# Altium footprint library converter.PcbLib: 44 footprints (part 1 of 3)
Each footprint in its own frame and in the unit in brackets; x right, y up, seen from the top. Pads: shape width x height; smd on the part's side, far side on the other; paste and mask are expansions set on the pad; w line width, h text height; cw(c..) or ccw(c..) is an arc to the next point about the centre after c.
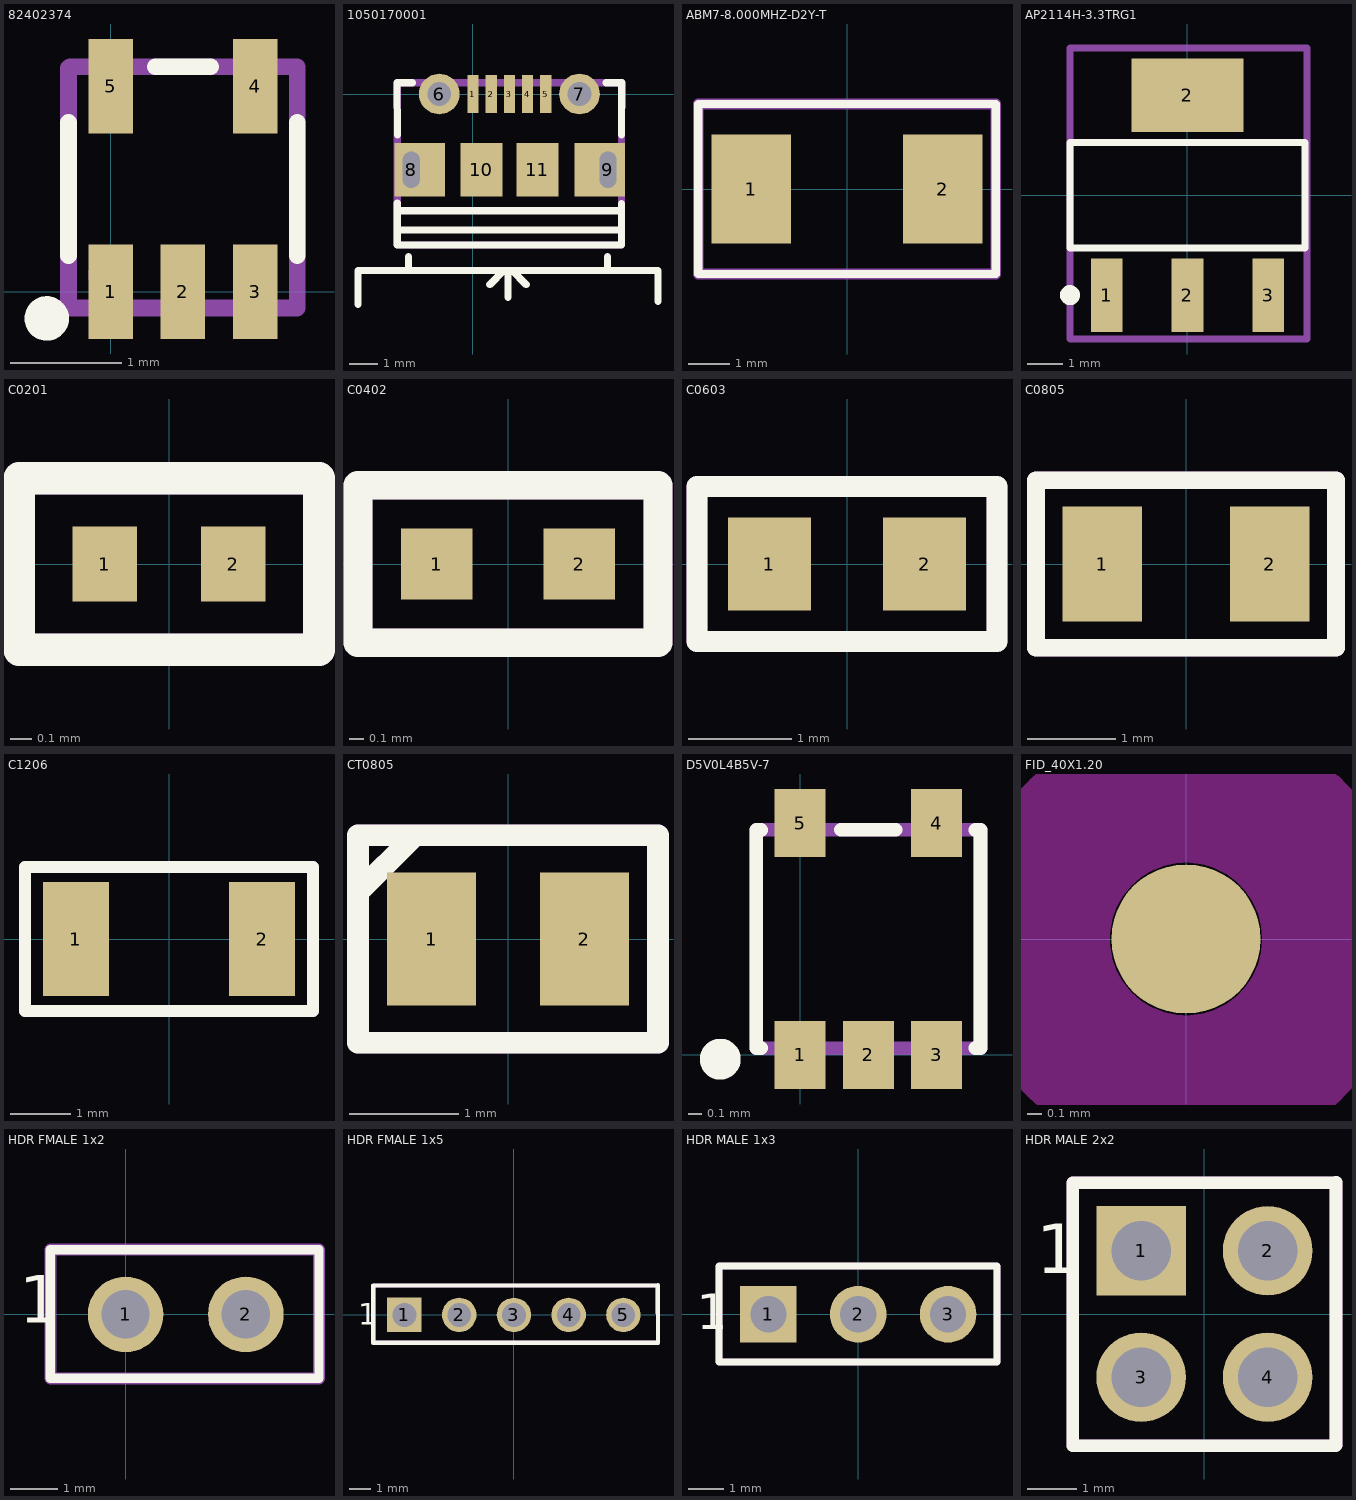
[diagram p0: the footprints below, top view; thin cyan lines are the x and y axes]

## 82402374 [mm]
pads (5):
  rect 0.4x0.85 smd mask+0.06: 1(0,0) 2(0.65,0) 3(1.3,0) 4(1.3,1.85) 5(0,1.85)
Top Overlay:
  circle w0.2: c-0.576,-0.24 r0.1
  lines w0.15: -0.38,0.325 -0.38,1.525 ; 0.4,2.025 0.9,2.025 ; 1.68,0.325 1.68,1.525
Mechanical 29:
  circle w0.2: c-0.001,0.154 r0.1
  lines w0.15: 1.68,-0.145 -0.38,-0.145 -0.38,2.014 -0.369,2.025 0.45,2.025 1.68,2.025 1.68,-0.124
  text "'.Designator'" at -0.341,0.451 h0.4
3D body "70997312.stp": height 1, standoff 0, extent -0.35,-0.175 1.65,2.025

## 1050170001 [mm]
pads (11):
  rect 0.4x1.35 smd mask+0.05: 1(0,0) 2(0.65,0) 3(1.3,0) 4(1.95,0) 5(2.6,0)
  round 1.45 hole 0.85: 6(-1.2,0) 7(3.8,0)
  rect 1.8x1.9 hole 0.6 slot 1.3 at 90 deg copper offset 0.3,0: 8(-2.2,-2.7)
  rect 1.8x1.9 hole 0.6 slot 1.3 at 90 deg copper offset -0.3,0: 9(4.816,-2.7)
  rect 1.5x1.9 smd: 10(0.3,-2.7) 11(2.3,-2.7)
Top Overlay:
  lines w0.254: -4.1,-7.5 -4.1,-6.3 6.6,-6.3 6.6,-7.4 ; -2.7,-4.844 5.3,-4.844 ; -2.7,-4.164 5.275,-4.164 ; -2.7,-3.897 -2.7,-5.385 5.3,-5.385 5.3,-3.901 ; -2.698,-1.461 -2.706,0.401 -2.155,0.401 ; -2.3,-6.249 -2.3,-5.8 ; 0.6,-6.8 1.1,-6.3 1.25,-6.3 ; 1.25,-7.25 1.25,-6.3 ; 1.9,-6.8 1.4,-6.3 1.25,-6.3 ; 4.755,0.401 5.306,0.401 5.298,-1.461 ; 4.8,-6.27 4.8,-5.8
Mechanical 29:
  lines w0.254: -2.7,-5.389 -2.7,0.4 5.3,0.4 5.3,-5.389 -2.7,-5.389
  text "'.Designator'" at -1.86,-3.47 h1
3D body "User Library-MicroUSB-B_Molex_105017-0001.step": height 2.71, standoff -0.59, extent -2.807,-5.235 5.393,0.195

## ABM7-8.000MHZ-D2Y-T [mm]
pads (2):
  rect 1.9x2.6 smd: 1(-2.286,0) 2(2.286,0)
Top Overlay:
  lines w0.2: -3.556,-2.032 -3.556,2.032 3.556,2.032 3.556,-2.032 -3.556,-2.032
Mechanical 29:
  lines w0.254: -3.556,-2.032 -3.556,2.032 3.556,2.032 3.556,-2.032 -3.556,-2.032
  text "'.Designator'" at -2.286,-0.508 h0.85
3D body "ABM7.STEP": height 1.41, standoff 0.01, extent -2.997,-1.752 2.997,1.753
3D body: height 1.45, standoff 1.4, extent -2.35,-1.73 2.35,1.27

## AP2114H-3.3TRG1 [mm]
pads (4):
  rect 0.9x2.1 smd: 1(-2.3,-2.85) 2(0,-2.85) 3(2.3,-2.85)
  rect 3.2x2.1 smd: 2(0,2.85)
Top Overlay:
  circle w0.3: c-3.35,-2.85 r0.135
  lines w0.2: -3.35,-1.5 -3.35,1.5 3.35,1.5 3.35,-1.5 -3.35,-1.5
Mechanical 29:
  circle w0.4: c-2.3,-2.9 r0.2
  lines w0.2: -3.35,4.2 -3.35,-4.1 3.4,-4.1 3.4,4.2 -3.3,4.2
  text "'.Designator'" at -2,-0.2 h0.85
3D body "SOT-223-3.step": height 1.66, standoff 0.01, extent -3.25,-3.5 3.25,3.5

## C0201 [mm]
pads (2):
  rect 0.3x0.35 smd mask+0.06: 1(-0.3,0) 2(0.3,0)
Top Overlay:
  lines w0.15: -0.7,-0.4 -0.7,0.4 0.7,0.4 0.7,-0.4 -0.7,-0.4
Mechanical 29:
  lines w0.15: -0.7,-0.4 0.7,-0.4 0.7,0.4 -0.7,0.4 -0.7,-0.4
  text "'.Designator'" at -0.4,-0.1 h0.2
3D body "C0201.step": height 0.3, standoff 0, extent -0.3,-0.15 0.3,0.15

## C0402 [mm]
pads (2):
  rect 0.5x0.5 smd: 1(-0.5,0) 2(0.5,0)
Top Overlay:
  lines w0.2: -1.05,-0.55 1.05,-0.55 1.05,0.55 -1.05,0.55 -1.05,-0.55
Mechanical 29:
  lines w0.2: -1.05,-0.55 -1.05,0.55 1.05,0.55 1.05,-0.55 -1.05,-0.55
  text "'.Designator'" at -0.717,-0.25 h0.5
3D body "C0402.step": height 0.51, standoff 0.01, extent -0.5,-0.25 0.5,0.25

## C0603 [mm]
pads (2):
  rect 0.8x0.9 smd: 1(-0.75,0) 2(0.75,0)
Top Overlay:
  lines w0.2: -1.45,-0.75 1.45,-0.75 1.45,0.75 -1.45,0.75 -1.45,-0.75
Mechanical 29:
  lines w0.2: -1.45,-0.75 1.45,-0.75 1.45,0.75 -1.45,0.75 -1.45,-0.75
  text "'.Designator'" at -0.7,-0.3 h0.6
3D body "C0603.step": height 0.81, standoff 0.01, extent -0.8,-0.43 0.8,0.43

## C0805 [mm]
pads (2):
  rect 0.9x1.3 smd: 1(-0.95,0) 2(0.95,0)
Top Overlay:
  lines w0.2: -1.7,-0.95 1.7,-0.95 1.7,0.95 -1.7,0.95 -1.7,-0.95
Mechanical 29:
  lines w0.2: -1.7,-0.95 -1.7,0.95 1.7,0.95 1.7,-0.95 -1.7,-0.95
  text "'.Designator'" at -1.2,-0.4 h0.85
3D body "C0805.step": height 1, standoff 0, extent -1,-0.625 1,0.625

## C1206 [mm] "Chip Capacitor, 2-Leads, Body 3.20x1.60mm, IPC Medium Density"
height 0.95
pads (2):
  rect 1.1x1.9 smd: 1(-1.55,0) 2(1.55,0)
Top Overlay:
  lines w0.2: -2.4,-1.2 2.4,-1.2 2.4,1.2 -2.4,1.2 -2.4,-1.2
Mechanical 29:
  lines w0.2: -2.4,-1.2 -2.4,1.2 2.4,1.2 2.4,-1.2 -2.4,-1.2
  text "'.Designator'" at -1.4,-0.5 h1
3D body "C1206.step": height 0.95, standoff 0, extent -1.7,-0.9 1.7,0.9

## CT0805 [mm]
pads (2):
  rect 0.813x1.219 smd: 1(-0.7,0) 2(0.7,0)
Top Overlay:
  lines w0.2: -1.374,0.427 -0.851,0.95 ; -1.374,-0.95 -1.374,0.95 1.374,0.95 1.374,-0.95 -1.374,-0.95
Mechanical 29:
  lines w0.2: -1.374,-0.95 -1.374,0.95 1.374,0.95 1.374,-0.95 -1.374,-0.95
  text "'.Designator'" at -1.2,-0.4 h0.8
3D body "TAJR_AVX.step": height 1.24, standoff 0, extent -1.13,-0.775 1.13,0.775

## D5V0L4B5V-7 [mm]
pads (5):
  rect 0.375x0.5 smd mask+0.04: 1(0,0) 2(0.5,0) 3(1,0) 4(1,1.7) 5(0,1.7)
Top Overlay:
  circle w0.2: c-0.586,-0.032 r0.05
  lines w0.1: -0.323,0.05 -0.323,1.65 ; -0.321,0.05 -0.286,0.05 ; -0.321,1.65 -0.286,1.65 ; 0.3,1.65 0.7,1.65 ; 1.286,0.05 1.321,0.05 ; 1.286,1.65 1.321,1.65 ; 1.323,0.05 1.323,1.65
Mechanical 29:
  circle w0.2: c0,0 r0.05
  lines w0.1: -0.323,0.05 1.323,0.05 1.323,1.65 -0.323,1.65 ; -0.323,0.05 -0.323,1.65 ; -0.323,0.05 -0.323,1.65
  text "'.Designator'" at -0.323,0.485 h0.3
3D body "User Library-sot-553.STEP": height 0.51, standoff 0.01, extent -0.3,0.05 1.3,1.65

## FID_40X1.20 [mil]
pads (1):
  round 40 smd paste-40 mask+40: ""(0,0)
Top Layer keep-out:
  circle w39.37: c0,0 r40.16

## HDR FMALE 1x2 [mm]
pads (2):
  round 1.6 hole 1.02: 1(0,0) 2(2.54,0)
Top Overlay:
  lines w0.2: -1.593,-1.353 -1.593,1.367 4.087,1.367 4.087,-1.353 -1.593,-1.353
  text "1" at -2.253,-0.176 h1
Mechanical 29:
  circle w0.508: c0,0 r0.127
  lines w0.254: -1.593,-1.353 -1.593,1.367 4.087,1.367 4.087,-1.353 -1.593,-1.353
  text "'.Designator'" at -1.2,-0.4 h1
3D body "_ _ _C021LFBN-RC.STEP": height 8.51, standoff -3.19, extent -1.537,-1.272 4.043,1.268

## HDR FMALE 1x5 [mm]
pads (5):
  rect 1.6x1.6 hole 1.1: 1(-5.08,0)
  round 1.6 hole 1.1: 2(-2.54,0) 3(0,0) 4(2.54,0) 5(5.08,0)
Top Overlay:
  lines w0.2: -6.529,1.335 -6.529,-1.284 6.686,-1.284 6.675,1.37 -6.529,1.365
  text "1" at -7.237,-0.45 h1
Mechanical 29:
  circle w0.508: c-5.08,0 r0.2
  lines w0.2: -6.529,1.335 -6.529,-1.284 6.686,-1.284 6.675,1.37 -6.529,1.365
  text "'.Designator'" at -2.54,0 h1
3D body "_ _ _C051LFBN-RC.STEP": height 8.51, standoff -3.19, extent -6.521,-1.234 6.679,1.306

## HDR MALE 1x3 [mm]
pads (3):
  rect 1.6x1.6 hole 1.02: 1(-2.54,0)
  round 1.6 hole 1.02: 2(0,0) 3(2.54,0)
Top Overlay:
  lines w0.2: -3.934,-1.353 3.922,-1.353 3.922,1.367 -3.934,1.367 -3.934,-1.333
  text "1" at -4.557,-0.426 h1
Mechanical 29:
  circle w0.508: c0,0 r0.127
  lines w0.2: -3.934,-1.353 3.922,-1.353 3.922,1.367 -3.934,1.367 -3.934,-1.333
  text "'.Designator'" at -1.2,-0.4 h1
3D body "61300311121.stp": height 8.69, standoff -3.2, extent -3.81,-1.27 3.81,1.27

## HDR MALE 2x2 [mm]
pads (4):
  rect 1.8x1.8 hole 1.2: 1(-1.27,1.27)
  round 1.8 hole 1.2: 2(1.27,1.27) 3(-1.27,-1.27) 4(1.27,-1.27)
Top Overlay:
  lines w0.254: 2.635,-2.643 -2.641,-2.643 -2.641,2.637 2.635,2.637 ; 2.641,-2.637 2.641,2.643
  text "1" at -3.381,0.822 h1
Mechanical 29:
  lines w0.254: 2.635,-2.643 -2.641,-2.643 -2.641,2.637 2.635,2.637 ; 2.641,-2.637 2.641,2.643
  text "'.Designator'" at -2.1,-0.251 h1
3D body "CONN_M20-9980245_HRW.step": height 8.74, standoff -5.08, extent -2.54,-2.54 2.54,2.54